# EAGLE library part HC-05 (library HC-05)
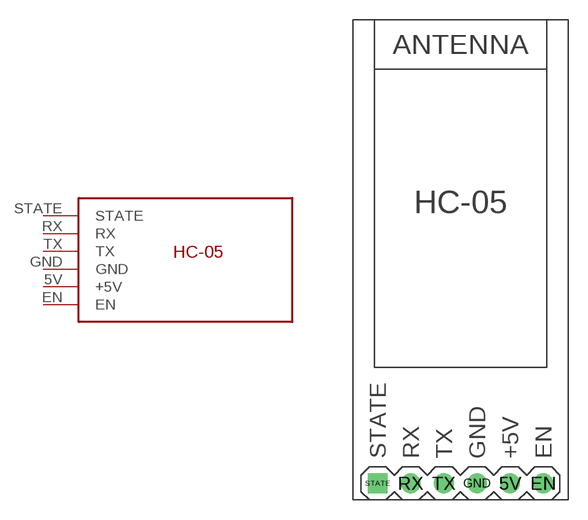
[diagram p0: symbol with the pads of HC-05; footprint HC-05]

Designator prefix -

## HC-05  [HC-05]
5V  +5V  pwr
EN  EN
GND  GND  pwr
RX  RX
STATE  STATE
TX  TX

## Footprint HC-05 (pad centres in mm)
HC-05
drill 1: 5V 3.81,-19.685; EN 6.35,-19.685; GND 1.27,-19.685; RX -3.81,-19.685; TX -1.27,-19.685
drill 1 square: STATE -6.35,-19.685